# Altium footprint library STM32F4_OSD_V12.PcbLib: 23 footprints (part 2 of 2)
Each footprint in its own frame and in the unit in brackets; x right, y up, seen from the top. Pads: shape width x height; smd on the part's side, far side on the other; paste and mask are expansions set on the pad; w line width, h text height; cw(c..) or ccw(c..) is an arc to the next point about the centre after c.
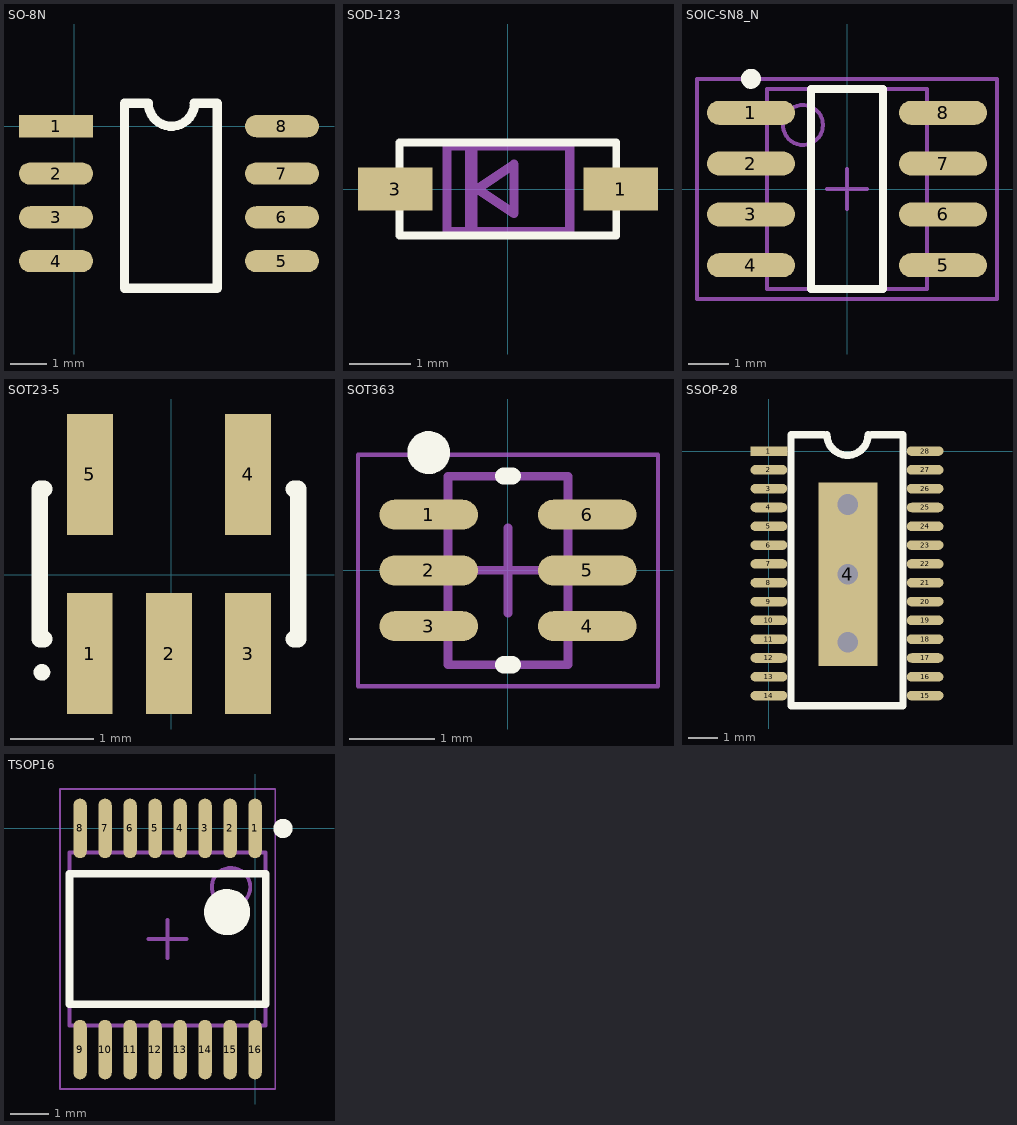
[diagram p1: the footprints below, top view; thin cyan lines are the x and y axes]

## SO-8N [mil]
pads (8):
  rect 80x24 smd: 1(-19.68,0)
  oval 80x24 smd: 2(-19.68,-51.18) 3(-19.68,-98.43) 4(-19.68,-145.67) 5(224.41,-145.67) 6(224.41,-98.43) 7(224.41,-51.18) 8(224.41,0)
Top Overlay:
  lines w10: 79.39,24.94 54.39,24.94 54.39,-175.06 154.39,-175.06 154.39,24.94 129.39,24.94 ; 80,25 ccw(c105,25) 130,25

## SOD-123 [mil] "SOD-123"
height 74.8
pads (2):
  rect 48x28 smd: 1(73,0) 3(-72.83,0)
Top Overlay:
  lines w5: -70,-30 -70,30 70,30 70,-30 -70,-30
Mechanical 2:
Mechanical 4:
Mechanical 16:
  rectangle: -27.56,-27.56 -19.68,28
  lines w6: -39.37,-27.56 -39.37,28 40,28 40,-27.56 -39.37,-27.56 ; -19.68,0 4,-15.75 4,16 -19.68,0

## SOIC-SN8_N [mm] "SOIC, 8-Leads, Body 4.9x3.8mm, Pitch 1.27mm, IPC Medium Density"
height 1.75
pads (8):
  oval 2.2x0.6 smd: 1(-2.4,1.905) 2(-2.4,0.635) 3(-2.4,-0.635) 4(-2.4,-1.905) 5(2.4,-1.905) 6(2.4,-0.635) 7(2.4,0.635) 8(2.4,1.905)
Top Overlay:
  circle w0.25: c-2.4,2.755 r0.125
  lines w0.2: -0.9,-2.5 0.9,-2.5 0.9,2.5 -0.9,2.5 -0.9,-2.5
Mechanical 13:
  circle w0.1: c-1.1,1.6 r0.5
  lines w0.1: -2,-2.5 2,-2.5 2,2.5 -2,2.5 -2,-2.5
Mechanical 15:
  lines w0.1: -0.5,0 0.5,0 ; 0,-0.5 0,0.5 ; -3.75,-2.75 3.75,-2.75 3.75,2.75 -3.75,2.75 -3.75,-2.75
3D body: height 1.75, standoff 0, extent -2,-2.5 2,2.5

## SOT23-5 [mm]
height 1.9
pads (5):
  rect 0.55x1.45 smd: 1(-0.975,-0.948) 2(-0.025,-0.948) 3(0.925,-0.948) 4(0.925,1.202) 5(-0.975,1.202)
Top Overlay:
  circle w0.1: c-1.55,-1.173 r0.05
  lines w0.2: -1.525,-0.773 -1.575,-0.773 -1.575,1.027 -1.525,1.027 ; 1.475,-0.773 1.525,-0.773 1.525,1.027 1.475,1.027

## SOT363 [mm]
height 1.1
pads (6):
  oval 1.15x0.35 smd: 1(-0.925,0.65) 2(-0.925,0) 3(-0.925,-0.65) 4(0.925,-0.65) 5(0.925,0) 6(0.925,0.65)
Top Overlay:
  circle w0.25: c-0.925,1.375 r0.125
  lines w0.2: -0.05,-1.1 0.05,-1.1 ; -0.05,1.1 0.05,1.1
Mechanical 13:
  lines w0.1: -0.7,-1.1 -0.7,1.1 0.7,1.1 0.7,-1.1 -0.7,-1.1
Mechanical 15:
  lines w0.05: -1.75,-1.35 -1.75,1.35 1.75,1.35 1.75,-1.35 -1.75,-1.35
  lines w0.1: -0.5,0 0.5,0 ; 0,-0.5 0,0.5
3D body: height 1.1, standoff 0.25, extent -0.7,-1.1 0.7,1.1

## SSOP-28 [mm]
pads (29):
  rect 1.27x0.33 smd: 1(0,0)
  oval 1.27x0.33 smd: 2(0,-0.65) 3(0,-1.3) 4(0,-1.95) 5(0,-2.6) 6(0,-3.25) 7(0,-3.9) 8(0,-4.55) 9(0,-5.2) 10(0,-5.85) 11(0,-6.5) 12(0,-7.15) 13(0,-7.8) 14(0,-8.45) 15(5.397,-8.45) 16(5.397,-7.8) 17(5.397,-7.15) 18(5.397,-6.5) 19(5.397,-5.85) 20(5.397,-5.2) 21(5.397,-4.55) 22(5.397,-3.9) 23(5.397,-3.25) 24(5.397,-2.6) 25(5.397,-1.95) 26(5.397,-1.3) 27(5.397,-0.65) 28(5.397,0)
  rect 2.032x6.35 smd: 4(2.73,-4.259)
via 2.731,-1.846 diameter 1.27 hole 0.711
via 2.73,-4.259 diameter 1.27 hole 0.711
via 2.731,-6.608 diameter 1.27 hole 0.711
Top Overlay:
  lines w0.254: 1.905,0.567 1.897,0.559 0.762,0.559 0.762,-8.806 4.635,-8.806 4.635,0.559 ; 2.003,0.567 ccw(c2.716,0.567) 3.429,0.567 ; 3.556,0.567 4.635,0.567

## TSOP16 [mm]
pads (16):
  oval 0.35x1.55 smd: 1(0,0) 2(-0.65,0) 3(-1.3,0) 4(-1.95,0) 5(-2.6,0) 6(-3.25,0) 7(-3.9,0) 8(-4.55,0) 9(-4.55,-5.75) 10(-3.9,-5.75) 11(-3.25,-5.75) 12(-2.6,-5.75) 13(-1.95,-5.75) 14(-1.3,-5.75) 15(-0.65,-5.75) 16(0,-5.75)
Top Overlay:
  circle w0.25: c0.725,0 r0.125
  circle w0.6: c-0.725,-2.175 r0.3
  lines w0.2: -4.825,-4.575 0.275,-4.575 0.275,-1.175 -4.825,-1.175 -4.825,-4.575
Mechanical 13:
  circle w0.1: c-0.625,-1.525 r0.5
  lines w0.1: -4.825,-5.125 0.275,-5.125 0.275,-0.625 -4.825,-0.625 -4.825,-5.125
Mechanical 15:
  lines w0.05: -5.075,-6.775 0.525,-6.775 0.525,1.025 -5.075,1.025 -5.075,-6.775
  lines w0.1: -2.775,-2.875 -1.775,-2.875 ; -2.275,-3.375 -2.275,-2.375
3D body: height 1.2, standoff 0.1, extent -4.825,-5.125 0.275,-0.625